# Altium schematic symbol library NCV8730.SchLib: 1 symbol
Pins are listed as number, name and electrical type; pins without a type are passive.

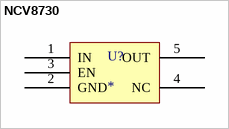
[diagram p0: symbol NCV8730]

## NCV8730
designator U?
NCV8730ASN500T1G
footprint SOT95P275X110-5N
pins: 1 IN, 2 GND, 3 EN, 4 NC, 5 OUT